# EAGLE library part PCA9646 (library nxp_60_1_1)
The PCA9646 is a monolithic CMOS integrated circuit for 2-wire bus buffering and switching in applications including I2C-bus, SMBus, PMBus, and other systems based on similar principles. AAL Eindhoven MK
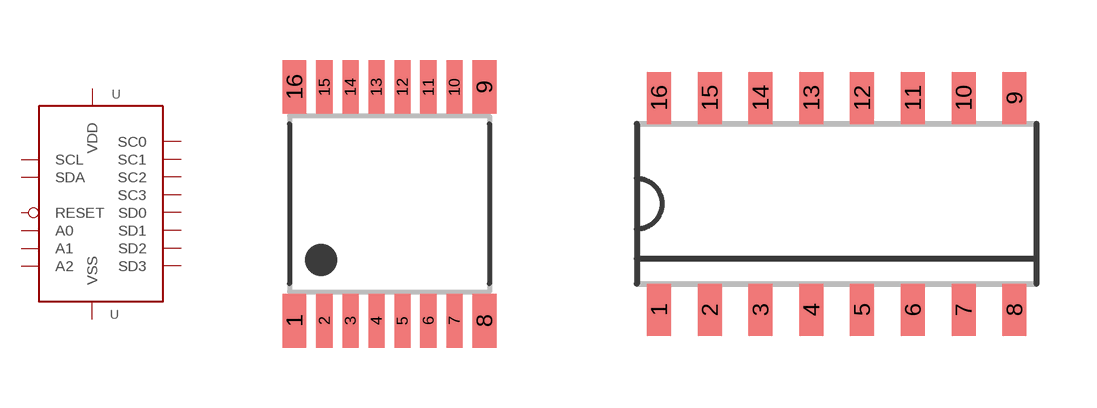
[diagram p21: symbol with the pads of SOT403-1; footprints SOT403-1, SOT109-1]

Designator prefix U

## PCA9646PW  [SOT403-1]
1  A0  in
2  A1  in
3  RESET  in
4  SD0
5  SC0
6  SD1
7  SC1
8  VSS  pwr
9  SD2
10  SC2
11  SD3
12  SC3
13  A2  in
14  SCL
15  SDA
16  VDD  pwr

## PCA9646P  [SOT109-1]
Pads as for SOT403-1

## Footprint SOT403-1 (pad centres in mm)
SOT403-1 TSSOP16: plastic thin shrink small outline package; 16 leads; body width 4.4 mm JEDEC: MO-153 IEC: ---
smd 0.6 x 1.35: 1 -2.375,-2.925; 8 2.375,-2.925; 9 2.375,2.925; 16 -2.375,2.925
smd 0.4 x 1.35: 2 -1.625,-2.925; 3 -0.975,-2.925; 4 -0.325,-2.925; 5 0.325,-2.925; 6 0.975,-2.925; 7 1.625,-2.925; 10 1.625,2.925; 11 0.975,2.925; 12 0.325,2.925; 13 -0.325,2.925; 14 -0.975,2.925; 15 -1.625,2.925

## Footprint SOT109-1 (pad centres in mm)
SOT109-1 SO16: plastic small outline package; 16 leads; body width 3.9 mm JEDEC: MS-012 IEC: 076E07
smd 0.6 x 1.3: 1 -4.445,-2.65; 2 -3.175,-2.65; 3 -1.905,-2.65; 4 -0.635,-2.65; 5 0.635,-2.65; 6 1.905,-2.65; 7 3.175,-2.65; 8 4.445,-2.65; 9 4.445,2.65; 10 3.175,2.65; 11 1.905,2.65; 12 0.635,2.65; 13 -0.635,2.65; 14 -1.905,2.65; 15 -3.175,2.65; 16 -4.445,2.65